# Altium schematic symbol library DM3D-SF.SchLib: 1 symbol
Pins are listed as number, name and electrical type; pins without a type are passive.

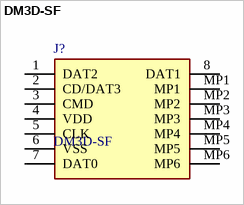
[diagram p0: symbol DM3D-SF]

## DM3D-SF
designator J?
Micro SD card push pull manual; Manufacturer_Name: Hirose; Geometry.Height: 1.55mm; Mouser Part Number: 798-DM3D-SF; Mouser Price/Stock: https://www.mouser.co.uk/ProductDetail/Hirose-Connector/DM3D-SF?qs=nSryOFbzj8L3f0GFYlvXkw%3D%3D; Manufacturer_Part_Number: DM3D-SF; Datasheet Link: https://datasheet.datasheetarchive.com/originals/distributors/SFDatasheet-7/sf-000141252.pdf
footprint DM3DSF
pins: 1 DAT2, 2 CD/DAT3, 3 CMD, 4 VDD, 5 CLK, 6 VSS, 7 DAT0, 8 DAT1, MP1, MP2, MP3, MP4, MP5, MP6